# EAGLE library part PWR-SWITCH (library ml)
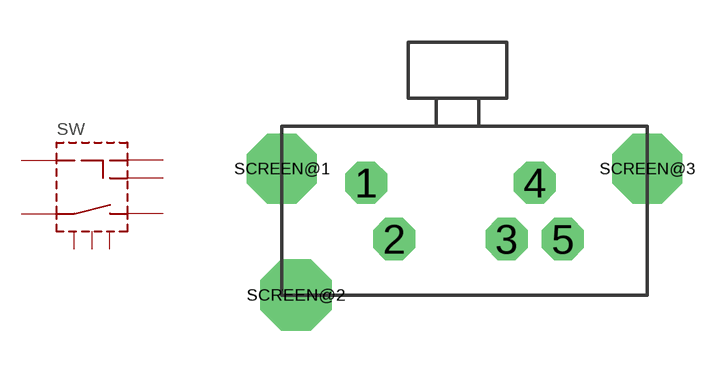
[diagram p0: symbol with the pads of PWR-SWITCH; footprint PWR-SWITCH]

Designator prefix SW

## PWR-SWITCH  [PWR-SWITCH]
1  BTN1
2  PWR-IN
3  PWR-OUT1
4  BTN2
5  PWR-OUT2
SCREEN@1  SHIELD  sup
SCREEN@2  SHIELD  sup
SCREEN@3  SHIELD  sup

## Footprint PWR-SWITCH (pad centres in mm)
drill 0.8 pad 1.5 octagon: 1 3,4; 2 4,2; 3 8,2; 4 9,4; 5 10,2
drill 1.2 pad 2.5 octagon: SCREEN@1 0,4.5; SCREEN@3 13,4.5
drill 1.2 pad 2.54 octagon: SCREEN@2 0.5,0